# EAGLE library part SELECTOR (library p.peter-logic)
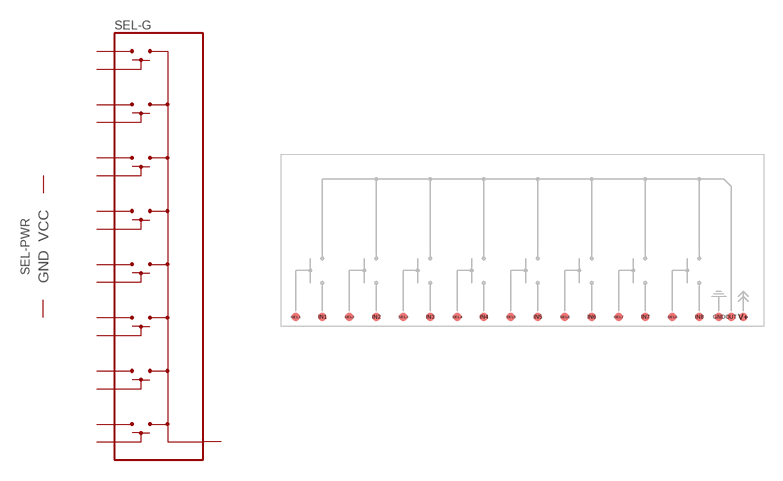
[diagram p1: symbol with the pads of SELECTOR-8_BIT-NOMUX; footprint SELECTOR-8_BIT-NOMUX]

Designator prefix SEL; gates -G=SELECTOR-8_BIT-NOMUX -PWR=GENERIC-PWR

## SELECTOR  [SELECTOR-8_BIT-NOMUX]
GND  -PWR:GND
IN1  -G:IN1
IN2  -G:IN2
IN3  -G:IN3
IN4  -G:IN4
IN5  -G:IN5
IN6  -G:IN6
IN7  -G:IN7
IN8  -G:IN8
OUT  -G:OUT
SEL1  -G:SEL1
SEL2  -G:SEL2
SEL3  -G:SEL3
SEL4  -G:SEL4
SEL5  -G:SEL5
SEL6  -G:SEL6
SEL7  -G:SEL7
SEL8  -G:SEL8
V+  -PWR:VCC

## Footprint SELECTOR-8_BIT-NOMUX (pad centres in mm)
smd 0.7 x 0.7: GND 35.8,0.7; IN1 3.4,0.7; IN2 7.8,0.7; IN3 12.2,0.7; IN4 16.6,0.7; IN5 21,0.7; IN6 25.4,0.7; IN7 29.8,0.7; IN8 34.2,0.7; OUT 36.8,0.7; SEL1 1.2,0.7; SEL2 5.6,0.7; SEL3 10,0.7; SEL4 14.4,0.7; SEL5 18.8,0.7; SEL6 23.2,0.7; SEL7 27.6,0.7; SEL8 32,0.7; V+ 37.8,0.7